# EAGLE library part BK3231BRK (library AQS)
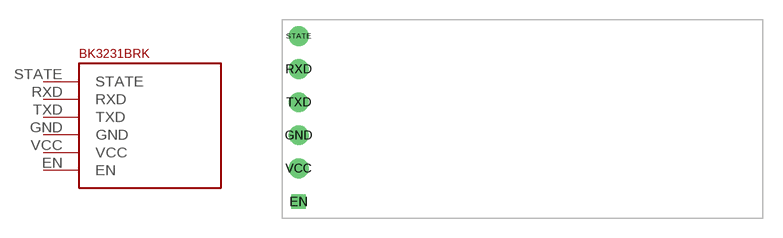
[diagram p2: symbol with the pads of BK3231BRK; footprint BK3231BRK]

Designator prefix -

## BK3231BRK  [BK3231BRK]
EN  EN
GND  GND
RXD  RXD
STATE  STATE
TXD  TXD
VCC  VCC

## Footprint BK3231BRK (pad centres in mm)
drill 0.6 square: EN 1.27,-13.97
drill 1: GND 1.27,-8.89; RXD 1.27,-3.81; STATE 1.27,-1.27; TXD 1.27,-6.35; VCC 1.27,-11.43